# Altium schematic symbol library Revo_element.SchLib: 112 symbols (part 2 of 2)
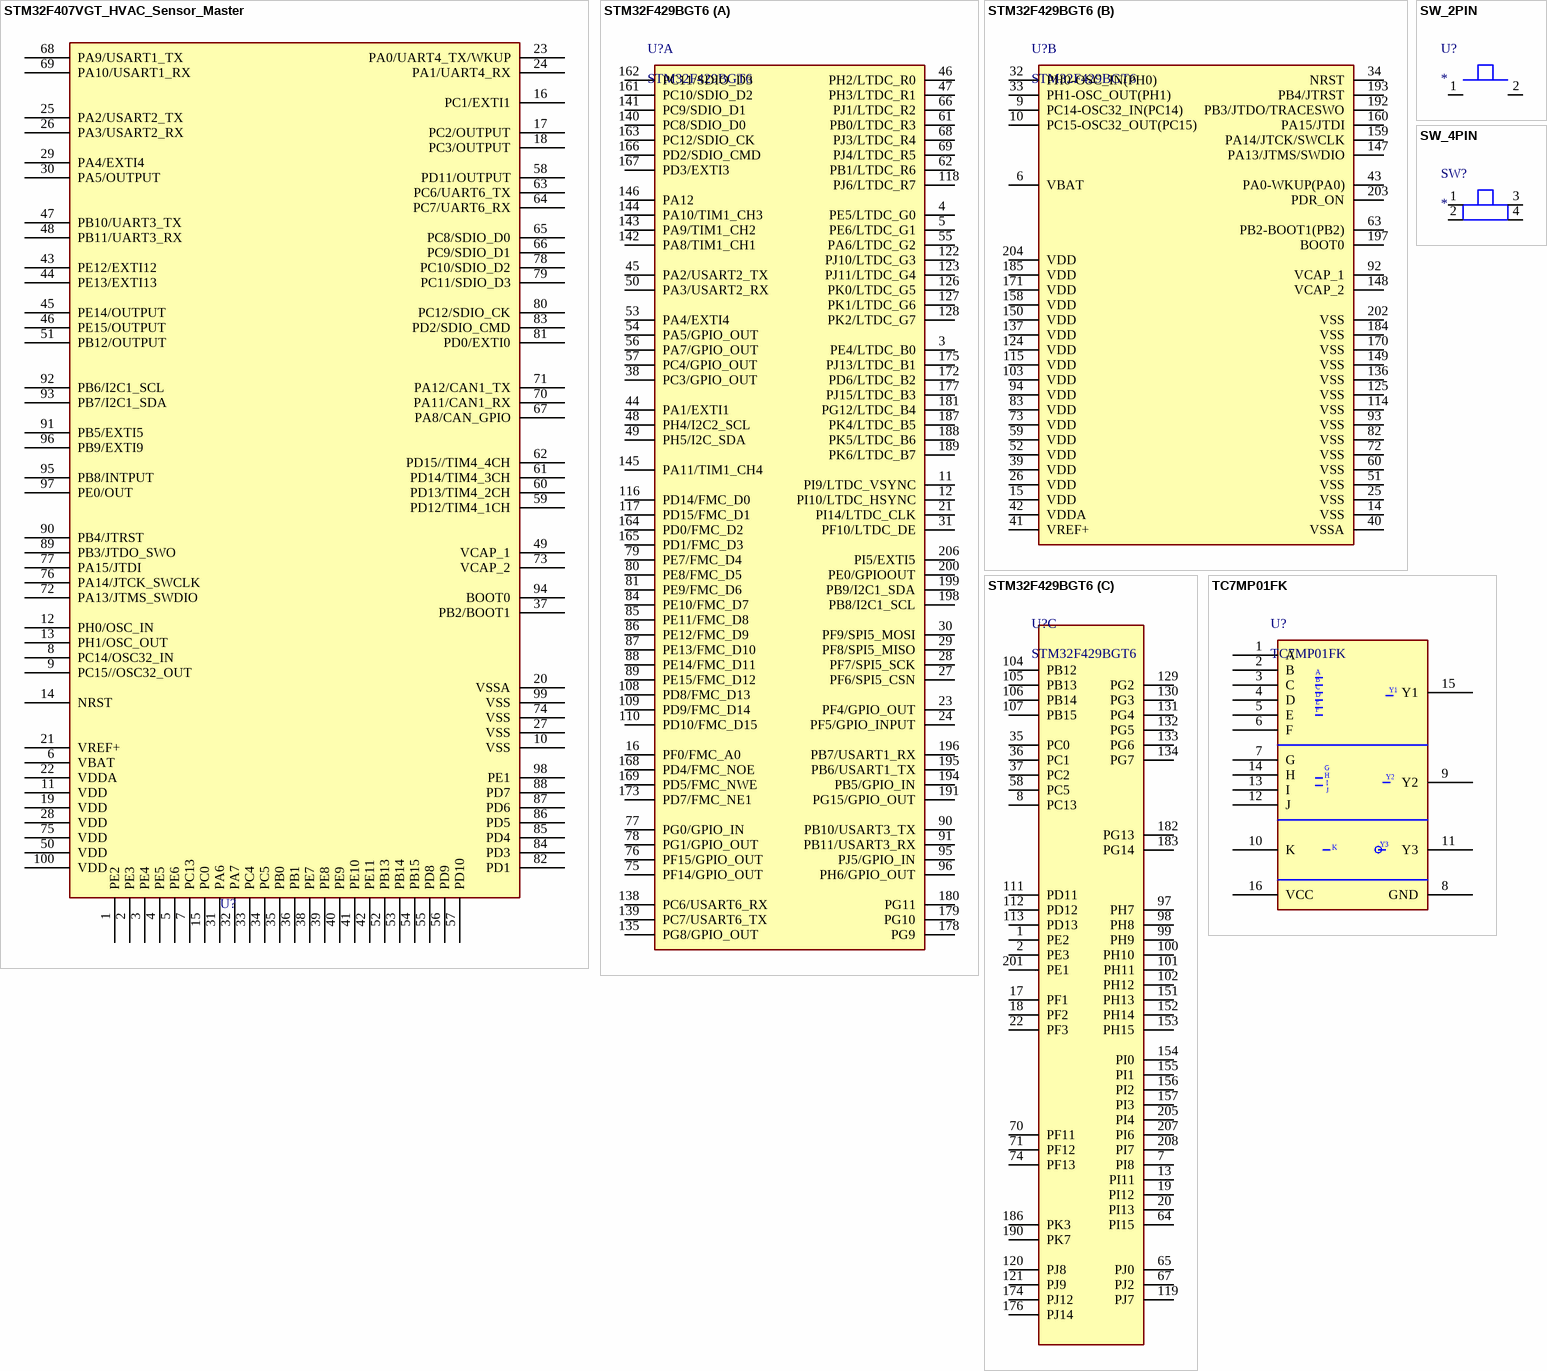
[diagram p6: symbols STM32F407VGT_HVAC_Sensor_Master to TC7MP01FK]

## STM32F429BGT6
designator U?
ARM Microcontrollers; Made by: STMicroelectronics; Note: MCU High-performance advanced line, Arm Cortex-M4 core DSP & FPU, 1 Mbyte of Flash 1; ComponentLink1Description: Datasheet; ComponentLink1URL: https://www.mouser.kr/datasheet/2/389/stm32f427vg-1760963.pdf; ComponentLink2Description: Market; ComponentLink2URL: https://www.mouser.kr/ProductDetail/STMicroelectronics/STM32F429BGT6?qs=DqCdCwOw4%2F5l%2FE9aCVsrOQ%3D%3D; PartName: STM32F429BGT6; Value: *; Footprint: LQFP-208
footprint LQFP208
part A pins: 3 PE4/LTDC_B0, 4 PE5/LTDC_G0, 5 PE6/LTDC_G1, 11 PI9/LTDC_VSYNC, 12 PI10/LTDC_HSYNC, 16 PF0/FMC_A0, 21 PI14/LTDC_CLK, 23 PF4/GPIO_OUT, 24 PF5/GPIO_INPUT, 27 PF6/SPI5_CSN, 28 PF7/SPI5_SCK, 29 PF8/SPI5_MISO, 30 PF9/SPI5_MOSI, 31 PF10/LTDC_DE, 38 PC3/GPIO_OUT, 44 PA1/EXTI1, 45 PA2/USART2_TX, 46 PH2/LTDC_R0, 47 PH3/LTDC_R1, 48 PH4/I2C2_SCL, 49 PH5/I2C_SDA, 50 PA3/USART2_RX, 53 PA4/EXTI4, 54 PA5/GPIO_OUT, 55 PA6/LTDC_G2, 56 PA7/GPIO_OUT, 57 PC4/GPIO_OUT, 61 PB0/LTDC_R3, 62 PB1/LTDC_R6, 66 PJ1/LTDC_R2, 68 PJ3/LTDC_R4, 69 PJ4/LTDC_R5, 75 PF14/GPIO_OUT, 76 PF15/GPIO_OUT, 77 PG0/GPIO_IN, 78 PG1/GPIO_OUT, 79 PE7/FMC_D4, 80 PE8/FMC_D5, 81 PE9/FMC_D6, 84 PE10/FMC_D7, 85 PE11/FMC_D8, 86 PE12/FMC_D9, 87 PE13/FMC_D10, 88 PE14/FMC_D11, 89 PE15/FMC_D12, 90 PB10/USART3_TX, 91 PB11/USART3_RX, 95 PJ5/GPIO_IN, 96 PH6/GPIO_OUT, 108 PD8/FMC_D13, 109 PD9/FMC_D14, 110 PD10/FMC_D15, 116 PD14/FMC_D0, 117 PD15/FMC_D1, 118 PJ6/LTDC_R7, 122 PJ10/LTDC_G3, 123 PJ11/LTDC_G4, 126 PK0/LTDC_G5, 127 PK1/LTDC_G6, 128 PK2/LTDC_G7, 135 PG8/GPIO_OUT, 138 PC6/USART6_RX, 139 PC7/USART6_TX, 140 PC8/SDIO_D0, 141 PC9/SDIO_D1, 142 PA8/TIM1_CH1, 143 PA9/TIM1_CH2, 144 PA10/TIM1_CH3, 145 PA11/TIM1_CH4, 146 PA12, 161 PC10/SDIO_D2, 162 PC11/SDIO_D3, 163 PC12/SDIO_CK, 164 PD0/FMC_D2, 165 PD1/FMC_D3, 166 PD2/SDIO_CMD, 167 PD3/EXTI3, 168 PD4/FMC_NOE, 169 PD5/FMC_NWE, 172 PD6/LTDC_B2, 173 PD7/FMC_NE1, 175 PJ13/LTDC_B1, 177 PJ15/LTDC_B3, 178 PG9, 179 PG10, 180 PG11, 181 PG12/LTDC_B4, 187 PK4/LTDC_B5, 188 PK5/LTDC_B6, 189 PK6/LTDC_B7, 191 PG15/GPIO_OUT, 194 PB5/GPIO_IN, 195 PB6/USART1_TX, 196 PB7/USART1_RX, 198 PB8/I2C1_SCL, 199 PB9/I2C1_SDA, 200 PE0/GPIOOUT, 206 PI5/EXTI5
part B pins: 6 VBAT, 9 PC14-OSC32_IN(PC14), 10 PC15-OSC32_OUT(PC15), 14 VSS, 15 VDD, 25 VSS, 26 VDD, 32 PH0-OSC_IN(PH0), 33 PH1-OSC_OUT(PH1), 34 NRST, 39 VDD, 40 VSSA, 41 VREF+, 42 VDDA, 43 PA0-WKUP(PA0), 51 VSS, 52 VDD, 59 VDD, 60 VSS, 63 PB2-BOOT1(PB2), 72 VSS, 73 VDD, 82 VSS, 83 VDD, 92 VCAP_1, 93 VSS, 94 VDD, 103 VDD, 114 VSS, 115 VDD, 124 VDD, 125 VSS, 136 VSS, 137 VDD, 147 PA13/JTMS/SWDIO, 148 VCAP_2, 149 VSS, 150 VDD, 158 VDD, 159 PA14/JTCK/SWCLK, 160 PA15/JTDI, 170 VSS, 171 VDD, 184 VSS, 185 VDD, 192 PB3/JTDO/TRACESWO, 193 PB4/JTRST, 197 BOOT0, 202 VSS, 203 PDR_ON, 204 VDD
part C pins: 1 PE2, 2 PE3, 7 PI8, 8 PC13, 13 PI11, 17 PF1, 18 PF2, 19 PI12, 20 PI13, 22 PF3, 35 PC0, 36 PC1, 37 PC2, 58 PC5, 64 PI15, 65 PJ0, 67 PJ2, 70 PF11, 71 PF12, 74 PF13, 97 PH7, 98 PH8, 99 PH9, 100 PH10, 101 PH11, 102 PH12, 104 PB12, 105 PB13, 106 PB14, 107 PB15, 111 PD11, 112 PD12, 113 PD13, 119 PJ7, 120 PJ8, 121 PJ9, 129 PG2, 130 PG3, 131 PG4, 132 PG5, 133 PG6, 134 PG7, 151 PH13, 152 PH14, 153 PH15, 154 PI0, 155 PI1, 156 PI2, 157 PI3, 174 PJ12, 176 PJ14, 182 PG13, 183 PG14, 186 PK3, 190 PK7, 201 PE1, 205 PI4, 207 PI6, 208 PI7

## SW_2PIN
designator U?
Battery Management STANDARD LINEAR BATT MNTR IC; ComponentLink1Description: Datasheet; ComponentLink1URL: *; ComponentLink2Description: Market; ComponentLink2URL: *; PartName: *; Value: *; Footprint: *; Made by: *; Note: *
pins: 1 ~{}, 2 ~{}

## SW_4PIN
designator SW?
Battery Management STANDARD LINEAR BATT MNTR IC; ComponentLink1Description: Datasheet; ComponentLink1URL: *; ComponentLink2Description: Market; ComponentLink2URL: *; PartName: *; Value: *; Footprint: *; Made by: *; Note: *
footprint TL1014AF (Side Tect Switch)
pins: 1 ~{}, 2 ~{}, 3 ~{}, 4 ~{}

## TC7MP01FK
designator U?
Low-Voltage Triple Gate(6-input AND + 4-input OR + inverter); Made by: TOSHIBA; PartName: TC7MP01FK; Value: TC7MP01FK; Footprint: VSSOP16-P; Note: Triple Gate; ComponentLink1Description: Datasheet; ComponentLink1URL: https://toshiba.semicon-storage.com/kr/semiconductor/product/general-purpose-logic-ics/detail.TC7MP01FK.html; ComponentLink2Description: Market; ComponentLink2URL: https://www.eleparts.co.kr/goods/view?no=6634319
footprint VSSOP-16N (P0030-0.50)
pins: 1 A, 2 B, 3 C, 4 D, 5 E, 6 F, 7 G, 8 GND, 9 Y2, 10 K, 11 Y3, 12 J, 13 I, 14 H, 15 Y1, 16 VCC

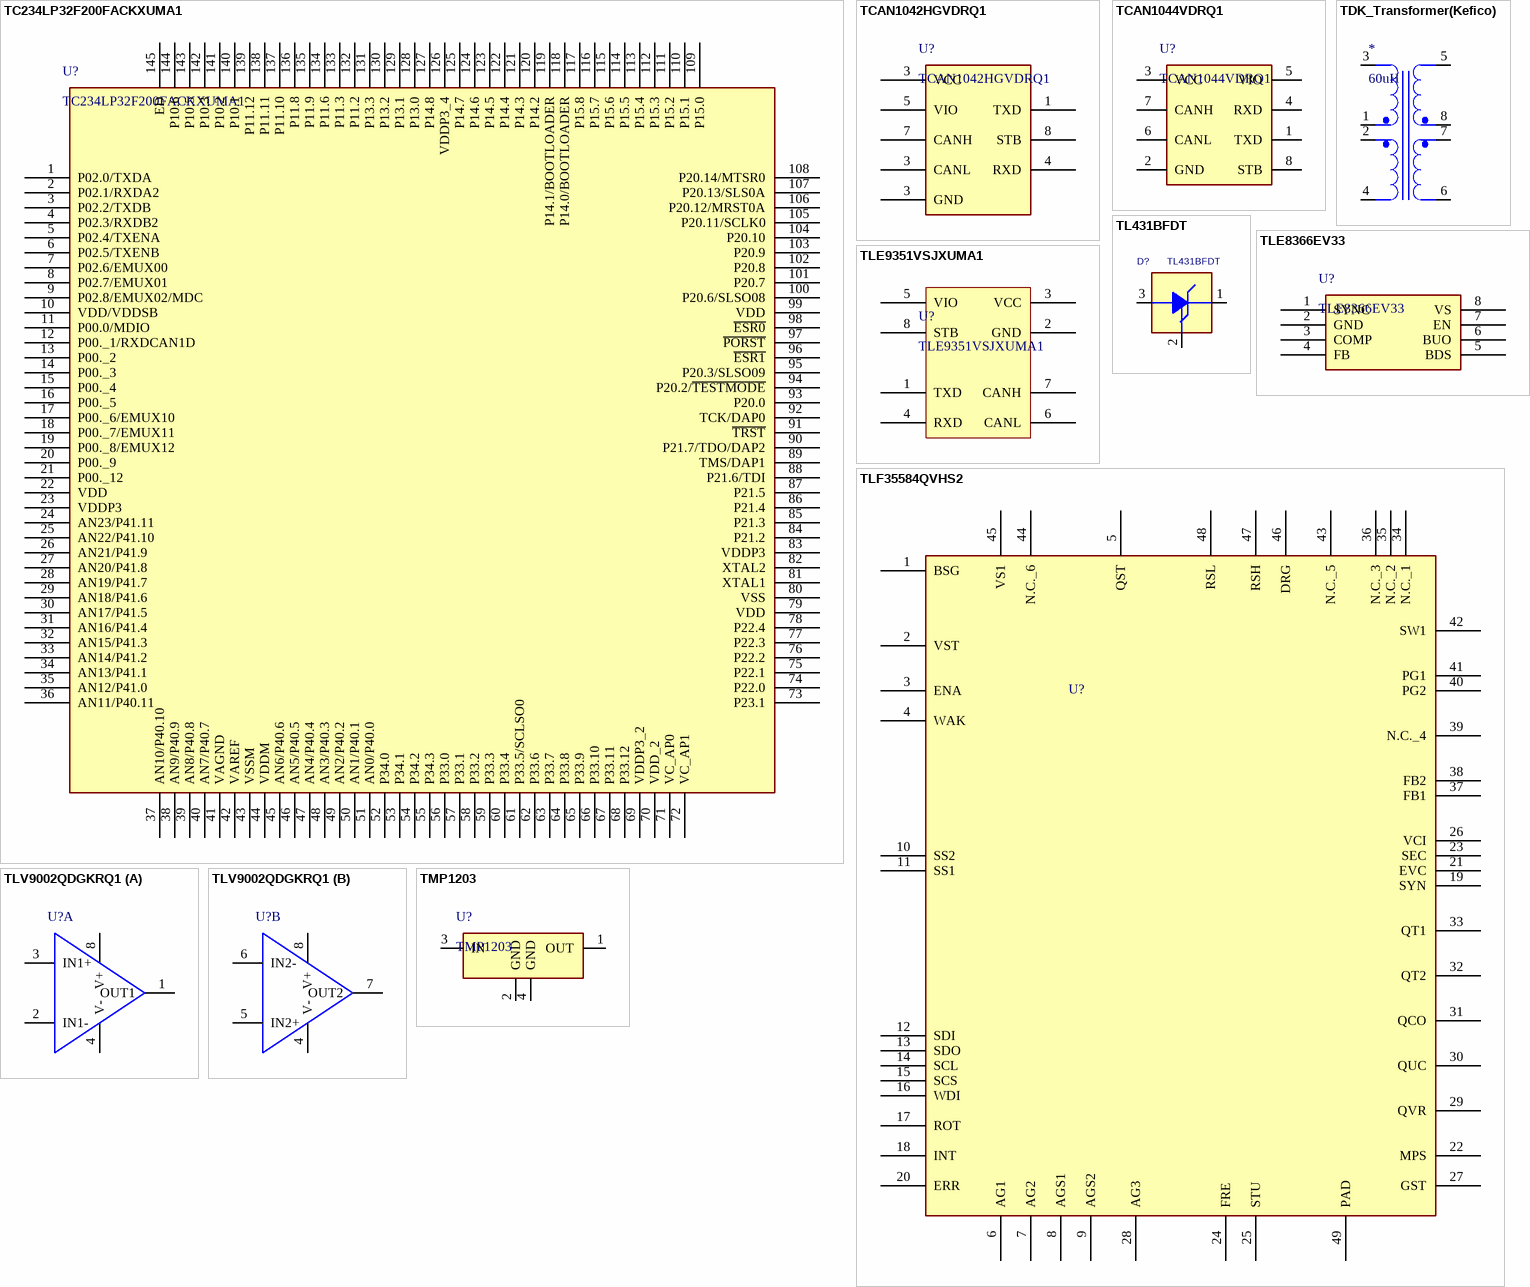
[diagram p4: symbols TC234LP32F200FACKXUMA1 to TMP1203]

## TC234LP32F200FACKXUMA1
designator U?
32-bit Microcontrollers - MCU 32 BIT AURIX; Made by: Infineon; PartName: TC234LP32F200FACKXUMA1; ComponentLink1Description: Datasheet; ComponentLink1URL: https://www.mouser.kr/datasheet/2/196/Infineon_TC23xAC_DS_DataSheet_v01_00_EN-3363981.pdf; ComponentLink2Description: Market; ComponentLink2URL: https://www.mouser.kr/ProductDetail/Infineon-Technologies/TC234LP32F200FACKXUMA1?qs=%252BdQmOuGyFcGkHVIdi20jfw%3D%3D; Value: TC234LP32F200FACKXUMA1; Footprint: TQFP-144; Note: *
footprint TQFP-144
pins: 1 P02.0/TXDA, 2 P02.1/RXDA2, 3 P02.2/TXDB, 4 P02.3/RXDB2, 5 P02.4/TXENA, 6 P02.5/TXENB, 7 P02.6/EMUX00, 8 P02.7/EMUX01, 9 P02.8/EMUX02/MDC, 10 VDD/VDDSB, 11 P00.0/MDIO, 12 P00._1/RXDCAN1D, 13 P00._2, 14 P00._3, 15 P00._4, 16 P00._5, 17 P00._6/EMUX10, 18 P00._7/EMUX11, 19 P00._8/EMUX12, 20 P00._9, 21 P00._12, 22 VDD, 23 VDDP3, 24 AN23/P41.11, 25 AN22/P41.10, 26 AN21/P41.9, 27 AN20/P41.8, 28 AN19/P41.7, 29 AN18/P41.6, 30 AN17/P41.5, 31 AN16/P41.4, 32 AN15/P41.3, 33 AN14/P41.2, 34 AN13/P41.1, 35 AN12/P41.0, 36 AN11/P40.11, 37 AN10/P40.10, 38 AN9/P40.9, 39 AN8/P40.8, 40 AN7/P40.7, 41 VAGND, 42 VAREF, 43 VSSM, 44 VDDM, 45 AN6/P40.6, 46 AN5/P40.5, 47 AN4/P40.4, 48 AN3/P40.3, 49 AN2/P40.2, 50 AN1/P40.1, 51 AN0/P40.0, 52 P34.0, 53 P34.1, 54 P34.2, 55 P34.3, 56 P33.0, 57 P33.1, 58 P33.2, 59 P33.3, 60 P33.4, 61 P33.5/SCLSO0, 62 P33.6, 63 P33.7, 64 P33.8, 65 P33.9, 66 P33.10, 67 P33.11, 68 P33.12, 69 VDDP3_2, 70 VDD_2, 71 VC_AP0, 72 VC_AP1, 73 P23.1, 74 P22.0, 75 P22.1, 76 P22.2, 77 P22.3, 78 P22.4, 79 VDD, 80 VSS, 81 XTAL1, 82 XTAL2, 83 VDDP3, 84 P21.2, 85 P21.3, 86 P21.4, 87 P21.5, 88 P21.6/TDI, 89 TMS/DAP1, 90 P21.7/TDO/DAP2, 91 ~{TRST}, 92 TCK/DAP0, 93 P20.0, 94 P20.2/~{TESTMODE}, 95 P20.3/SLSO09, 96 ~{ESR1}, 97 ~{PORST}, 98 ~{ESR0}, 99 VDD, 100 P20.6/SLSO08, 101 P20.7, 102 P20.8, 103 P20.9, 104 P20.10, 105 P20.11/SCLK0, 106 P20.12/MRST0A, 107 P20.13/SLS0A, 108 P20.14/MTSR0, 109 P15.0, 110 P15.1, 111 P15.2, 112 P15.3, 113 P15.4, 114 P15.5, 115 P15.6, 116 P15.7, 117 P15.8, 118 P14.0/BOOTLOADER, 119 P14.1/BOOTLOADER, 120 P14.2, 121 P14.3, 122 P14.4, 123 P14.5, 124 P14.6, 125 P14.7, 126 VDDP3_4, 127 P14.8, 128 P13.0, 129 P13.1, 130 P13.2, 131 P13.3, 132 P11.2, 133 P11.3, 134 P11.6, 135 P11.9, 136 P11.8, 137 P11.10, 138 P11.11, 139 P11.12, 140 P10.1, 141 P10.2, 142 P10.3, 143 P10.5, 144 P10.6, 145 ED

## TCAN1042HGVDRQ1
designator U?
CAN 인터페이스 IC Automotive Fault Protected CAN Transceiver With Flexible Data-Rate 8-SOIC -55 to 125 AEC-Q100; Made by: Texas Instruments; PartName: TCAN1042HGVDRQ1; Value: TCAN1042HGVDRQ1; Footprint: TSOT-23; ComponentLink1Description: Datasheet; ComponentLink1URL: https://www.ti.com/lit/ds/symlink/tcan1042hgv-q1.pdf?HQS=dis-mous-null-mousermode-dsf-pf-null-wwe&ts=1668626912457&ref_url=https%253A%252F%252Fwww.mouser.kr%252F; ComponentLink2Description: Market; ComponentLink2URL: https://www.mouser.kr/ProductDetail/Texas-Instruments/TCAN1042HGVDRQ1?qs=yDQnu9hAfI%2FZ9XkAYDov0Q%3D%3D; Note: Automotive Fault Protected CAN Transceiver
footprint SOIC-8
pins: 1 TXD, 3 VCC, 3 CANL, 3 GND, 4 RXD, 5 VIO, 7 CANH, 8 STB

## TCAN1044VDRQ1
designator U?
CAN Interface IC Automotive fault-protected high-speed CAN transceiver with standby and 1.8-V I/O support 8-SOIC -40 to 125; Made by: Texas Instruments; ComponentLink1Description: Datasheet; ComponentLink1URL: https://www.ti.com/lit/ds/symlink/tcan1044v-q1.pdf?ts=1724814836857&ref_url=https%253A%252F%252Fwww.mouser.com%252F; ComponentLink2Description: Market; ComponentLink2URL: https://www.mouser.com/ProductDetail/Texas-Instruments/TCAN1044VDRQ1?qs=qSfuJ%252Bfl%2Fd4nIBNEQHtylQ%3D%3D; PartName: TCAN1044VDRQ1; Value: TCAN1044VDRQ1; Footprint: SOIC-8N; Note: CAN Interface
footprint SOIC-8
pins: 1 TXD, 2 GND, 3 VCC, 4 RXD, 5 VIO, 6 CANL, 7 CANH, 8 STB

## TDK_Transformer(Kefico)
designator *, comment 60uH
TDK_Transformer(Kefico)  B78417A Series; PartName: TRS-YETRF1313H; Value: 60uH; Footprint: *; Made by: *; Note: *; ComponentLink1Description: Datasheet; ComponentLink1URL: https://www.tdk-electronics.tdk.com/inf/85/ds/b78417a.pdf; ComponentLink2Description: Market; ComponentLink2URL: *
footprint TRS-YETRF1313H
footprint TDK_Transformer(Kefico) (1:1 SMD type Transformer)
pins: 1 IN1, 2 IN2, 3 IN1, 4 IN2, 5 OUT1, 6 OUT2, 7 OUT2, 8 OUT1

## TL431BFDT
designator D?
Voltage References TL431BFDT/SOT23/TO-236AB; PartName: TL431BFDT,215; Made by: Nexperia; Value: TL431BFDT; Footprint: SOT23; Note: Voltage References; ComponentLink1Description: Datasheet; ComponentLink1URL: https://www.mouser.kr/datasheet/2/916/TL431_FAM-1319628.pdf; ComponentLink2Description: Market; ComponentLink2URL: https://www.mouser.kr/ProductDetail/Nexperia/TL431BFDT215?qs=A1cBxND5mHKnZ8peyCtLgw%3D%3D
footprint SOT23
pins: 1 C, 2 REF, 3 A

## TLE8366EV33
designator U?
1.8A DC/DC Step-Down Voltage Regulator; Made by: Infineon; PartName: TLE8366EV33; Value: TLE8366EV33; Footprint: SOIC-8; Note: 1.8A DC/DC Step-Down Voltage Regulator; ComponentLink1Description: Datasheet; ComponentLink1URL: https://www.infineon.com/dgdl/Infineon-TLE8366-DS-v01_00-EN.pdf?fileId=5546d46258fc0bc1015969d2def641fa; ComponentLink2Description: Market; ComponentLink2URL: https://www.devicemart.co.kr/goods/view?no=10883075
footprint SOIC-8
pins: 1 SYNC, 2 GND, 3 COMP, 4 FB, 5 BDS, 6 BUO, 7 EN, 8 VS

## TLE9351VSJXUMA1
designator U?
Made by: Infineon; PartName: TLE9351VSJXUMA1; Value: TLE9351VSJXUMA1; Footprint: DSO-8; Note: *; ComponentLink1Description: Datasheet; ComponentLink1URL: https://www.mouser.kr/datasheet/2/196/Infineon_TLE9251V_DataSheet_v01_11_EN-3364017.pdf; ComponentLink2Description: Market; ComponentLink2URL: https://www.mouser.kr/ProductDetail/Infineon-Technologies/TLE9251VSJXUMA1?qs=u4fy%2FsgLU9Nld%2FIoDfZmmw%3D%3D&srsltid=AfmBOorVd1QGEEjOMRY-36fGmKn4R0k9VBcKnU3hVSD_LhTppEk1e2_I
footprint SOIC127P600X175-8N
pins: 1 TXD, 2 GND, 3 VCC, 4 RXD, 5 VIO, 6 CANL, 7 CANH, 8 STB

## TLF35584QVHS2
designator U?  (value not drawn)
TLF35584QVHS2 is a multiple output system supply for safety-relevant applications supplying 3.3V-uC; Made by: Infineon; PartName: TLF35584QVHS2; ComponentLink1Description: Datasheet; ComponentLink1URL: myicp; ComponentLink2Description: Market; ComponentLink2URL: https://www.mouser.kr/ProductDetail/Infineon-Technologies/TLF35584QVHS2XUMA1?qs=Rp5uXu7WBW91zKxuLZBTlw%3D%3D; Value: TLF35584QVHS2; Footprint: PG-VQFN-48; Note: *
footprint PG-VQFN-48
pins: 1 BSG, 2 VST, 3 ENA, 4 WAK, 5 QST, 6 AG1, 7 AG2, 8 AGS1, 9 AGS2, 10 SS2, 11 SS1, 12 SDI, 13 SDO, 14 SCL, 15 SCS, 16 WDI, 17 ROT, 18 INT, 19 SYN, 20 ERR, 21 EVC, 22 MPS, 23 SEC, 24 FRE, 25 STU, 26 VCI, 27 GST, 28 AG3, 29 QVR, 30 QUC, 31 QCO, 32 QT2, 33 QT1, 34 N.C._1, 35 N.C._2, 36 N.C._3, 37 FB1, 38 FB2, 39 N.C._4, 40 PG2, 41 PG1, 42 SW1, 43 N.C._5, 44 N.C._6, 45 VS1, 46 DRG, 47 RSH, 48 RSL, 49 PAD

## TLV9002QDGKRQ1
designator U?  (value not drawn)
Integrated Circuit; Made by: Texas Instruments; ComponentLink1Description: Datasheet; ComponentLink1URL: https://www.ti.com/lit/gpn/TLV9002-Q1; ComponentLink2Description: Market; ComponentLink2URL: https://www.mouser.co.uk/ProductDetail/Texas-Instruments/TLV9002QDGKRQ1?qs=iLbezkQI%252BsjqtLew7kMHXA%3D%3D; PartName: TLV9002QDGKRQ1; Value: TLV9002QDGKRQ1; Footprint: VSSOP-8 (0.65); Note: *
footprint VSSOP-8 (0.65)
part A pins: 1 OUT1, 2 IN1-, 3 IN1+, 4 V-, 8 V+
part B pins: 4 V-, 5 IN2+, 6 IN2-, 7 OUT2, 8 V+

## TMP1203
designator U?
PartName: TMP1203; Value: TMP1203; Footprint: SOT89-3; Made by: *; Note: *; ComponentLink1Description: Datasheet; ComponentLink1URL: *; ComponentLink2Description: Market; ComponentLink2URL: *
footprint SOT89-3
pins: 1 OUT, 2 GND, 3 IN, 4 GND

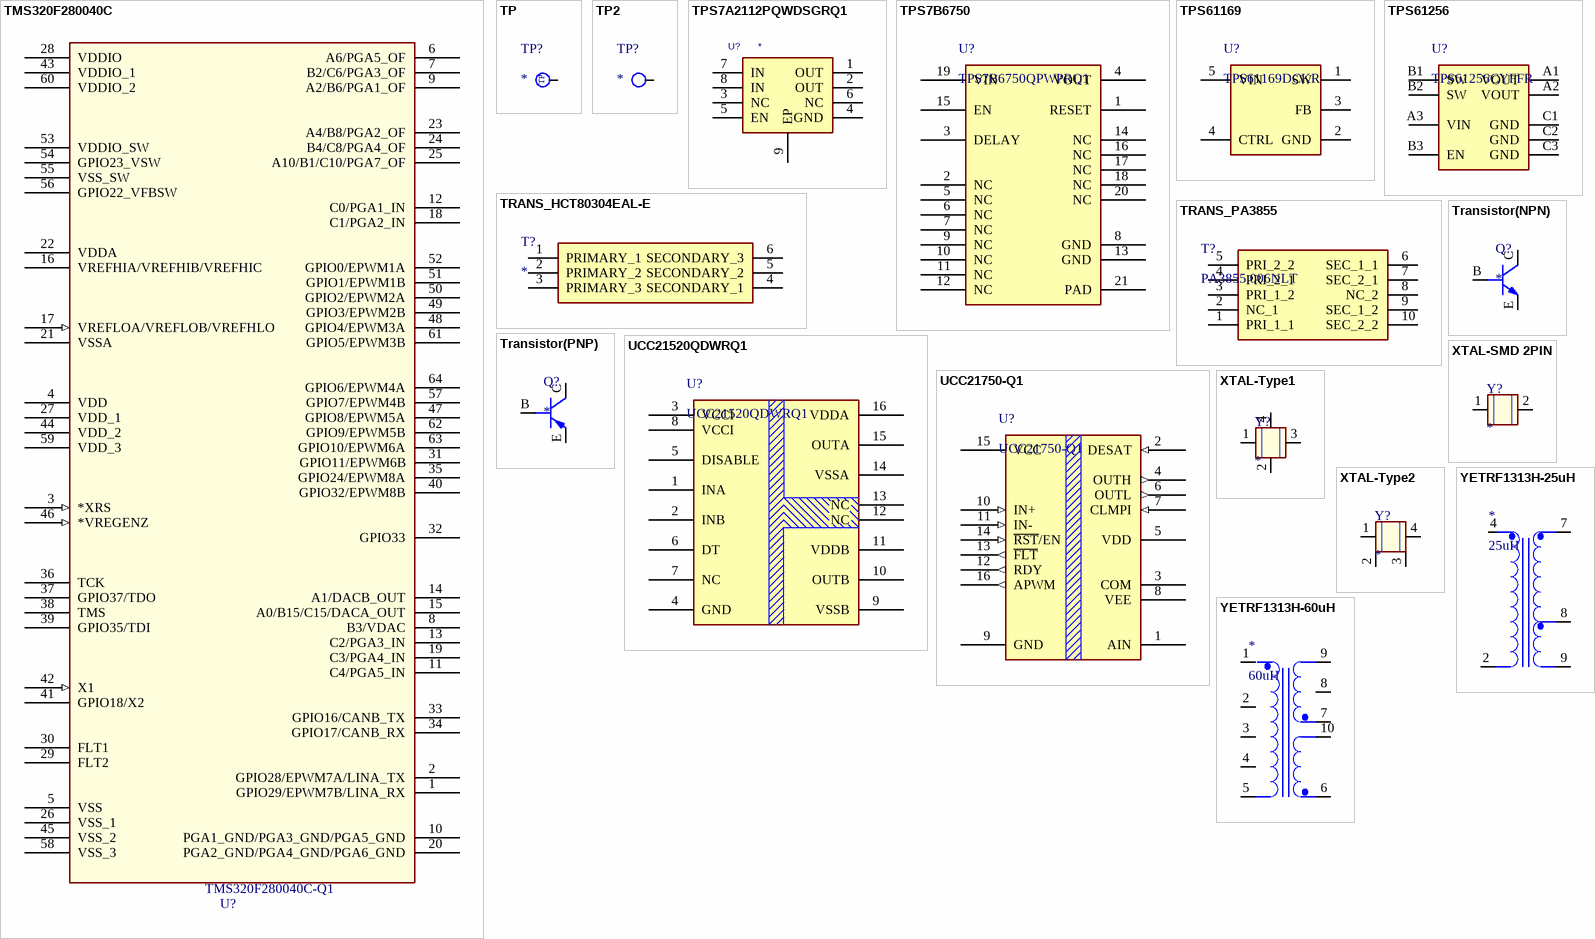
[diagram p5: symbols TMS320F280040C to YETRF1313H-60uH]

## TMS320F280040C
designator U?, comment TMS320F280040C-Q1
Automotive C2000™ 32-bit MCU(-40C~125C); Made by: TEXAS INSTRUMENTS; Note: 100 MHz, FPU, TMU, 128-KB flash, InstaSPIN-FOC, CLB, PGAs, SDFM; PartName: TMS320F280040C-Q1; Value: TMS320F280040C-Q1; Footprint: LQFP-64; ComponentLink1Description: Datasheet; ComponentLink1URL: https://www.ti.com/lit/ug/sprui33d/sprui33d.pdf?ts=1652076277118&ref_url=https%253A%252F%252Fwww.ti.com%252Fproduct%252FTMS320F280049%253FkeyMatch%253DTMS320F280049PZ; ComponentLink2Description: Market; ComponentLink2URL: https://www.mouser.kr/ProductDetail/Texas-Instruments/F280040CPMQR?qs=qSfuJ%252Bfl%2Fd4R%2FTjDtltnGQ%3D%3D
footprint LQFP-64
pins: 1 GPIO29/EPWM7B/LINA_RX, 2 GPIO28/EPWM7A/LINA_TX, 3 *XRS (in), 4 VDD, 5 VSS, 6 A6/PGA5_OF, 7 B2/C6/PGA3_OF, 8 B3/VDAC, 9 A2/B6/PGA1_OF, 10 PGA1_GND/PGA3_GND/PGA5_GND, 11 C4/PGA5_IN, 12 C0/PGA1_IN, 13 C2/PGA3_IN, 14 A1/DACB_OUT, 15 A0/B15/C15/DACA_OUT, 16 VREFHIA/VREFHIB/VREFHIC, 17 VREFLOA/VREFLOB/VREFHLO (in), 18 C1/PGA2_IN, 19 C3/PGA4_IN, 20 PGA2_GND/PGA4_GND/PGA6_GND, 21 VSSA, 22 VDDA, 23 A4/B8/PGA2_OF, 24 B4/C8/PGA4_OF, 25 A10/B1/C10/PGA7_OF, 26 VSS_1, 27 VDD_1, 28 VDDIO, 29 FLT2, 30 FLT1, 31 GPIO11/EPWM6B, 32 GPIO33, 33 GPIO16/CANB_TX, 34 GPIO17/CANB_RX, 35 GPIO24/EPWM8A, 36 TCK, 37 GPIO37/TDO, 38 TMS, 39 GPIO35/TDI, 40 GPIO32/EPWM8B, 41 GPIO18/X2, 42 X1 (in), 43 VDDIO_1, 44 VDD_2, 45 VSS_2, 46 *VREGENZ (in), 47 GPIO8/EPWM5A, 48 GPIO4/EPWM3A, 49 GPIO3/EPWM2B, 50 GPIO2/EPWM2A, 51 GPIO1/EPWM1B, 52 GPIO0/EPWM1A, 53 VDDIO_SW, 54 GPIO23_VSW, 55 VSS_SW, 56 GPIO22_VFBSW, 57 GPIO7/EPWM4B, 58 VSS_3, 59 VDD_3, 60 VDDIO_2, 61 GPIO5/EPWM3B, 62 GPIO9/EPWM5B, 63 GPIO10/EPWM6A, 64 GPIO6/EPWM4A

## TP
designator TP?
PartName: NC; Value: *; Footprint: *; Made by: *; Note: *; ComponentLink1Description: Datasheet; ComponentLink1URL: *; ComponentLink2Description: Market; ComponentLink2URL: *
footprint TP_HOLE(1.0MM)
footprint TP_HOLE(2.0MM)
footprint TP_PAD(1mm)
footprint TP_PAD(2mm)
pins: 1

## TP2
designator TP?
PartName: NC; Value: *; Footprint: *; Made by: *; Note: *; ComponentLink1Description: Datasheet; ComponentLink1URL: *; ComponentLink2Description: Market; ComponentLink2URL: *
footprint TP_HOLE(1.0MM)
footprint TP_HOLE(2.0MM)
footprint TP_PAD(1mm)
footprint TP_PAD(2mm)
pins: 1

## TPS7A2112PQWDSGRQ1
designator U?
LDO Voltage Regulators; PartName: TPS7A2112PQWDSGRQ1; Made by: Texas Instruments; Note: Voltage References; Value: *; Footprint: DSG(WSON-8); ComponentLink1Description: Datasheet; ComponentLink1URL: https://www.ti.com/lit/ds/symlink/tps7a21-q1.pdf?ts=1730702590077&ref_url=https%253A%252F%252Fwww.mouser.kr%252F; ComponentLink2Description: Market; ComponentLink2URL: https://www.mouser.kr/ProductDetail/Texas-Instruments/TPS7A2112PQWDSGRQ1?qs=iLKYxzqNS763baD2bpcaZg%3D%3D
footprint DSG(WSON-8)
pins: 1 OUT, 2 OUT, 3 NC, 4 GND, 5 EN, 6 NC, 7 IN, 8 IN, 9 EP

## TPS7B6750
designator U?, comment TPS7B6750QPWPRQ1
TPS7B67xx-Q1 450-mA High-Voltage Ultra-Low IQ Low-Dropout Regulator / AEC-Q100; Made by: Texas Instruments; PartName: TPS7B6750QPWPRQ1; Value: TPS7B6750QPWPRQ1; Footprint: HTSSOP-20; Note: Regulator; ComponentLink1Description: Datasheet; ComponentLink1URL: https://www.ti.com/lit/ds/symlink/tps7b67-q1.pdf?HQS=dis-mous-null-mousermode-dsf-pf-null-wwe&ts=1668582559201&ref_url=https%253A%252F%252Fwww.mouser.kr%252F; ComponentLink2Description: Market; ComponentLink2URL: https://www.mouser.kr/ProductDetail/Texas-Instruments/TPS7B6750QPWPRQ1?qs=%2Fd%252BFzHvH4c3V1xLue7iwRQ%3D%3D
footprint HTSSOP-20
pins: 1 RESET, 2 NC, 3 DELAY, 4 VOUT, 5 NC, 6 NC, 7 NC, 8 GND, 9 NC, 10 NC, 11 NC, 12 NC, 13 GND, 14 NC, 15 EN, 16 NC, 17 NC, 18 NC, 19 VIN, 20 NC, 21 PAD

## TPS61169
designator U?, comment TPS61169DCKR
LED Lighting Drivers; Made by: Texas Instruments; Note: LED Lighting Drivers TPS61169 38-VHighCur r Boost WLED Driver; PartName: TPS61169DCKR; Value: *; Footprint: HTSSOP-20; ComponentLink1Description: Datasheet; ComponentLink1URL: https://www.ti.com/lit/ds/symlink/tps7b67-q1.pdf?HQS=dis-mous-null-mousermode-dsf-pf-null-wwe&ts=1668582559201&ref_url=https%253A%252F%252Fwww.mouser.kr%252F; ComponentLink2Description: Market; ComponentLink2URL: https://www.mouser.kr/ProductDetail/Texas-Instruments/TPS61169DCKR?qs=pqSajtDZXRUDQbMtko%2F5HQ%3D%3D
footprint SC-70-5
pins: 1 SW, 2 GND, 3 FB, 4 CTRL, 5 VIN

## TPS61256
designator U?, comment TPS61256CYFFR
Switching Voltage Regulators; Made by: Texas Instruments; Note: Switching Voltage Regulators 3.5-MHz, 5-V, 900-mA load boost converter in 1.2-mm x 1.3-mm WCSP, with pass-through mode 9-DSBGA -40 to 125; PartName: TPS61256CYFFR; Value: *; Footprint: DSBGA-9; ComponentLink1Description: Datasheet; ComponentLink1URL: https://www.ti.com/lit/ds/symlink/tps61256c.pdf?ts=1730187989387&ref_url=https%253A%252F%252Fwww.mouser.kr%252F; ComponentLink2Description: Market; ComponentLink2URL: https://www.mouser.kr/ProductDetail/Texas-Instruments/TPS61256CYFFR?qs=Mv7BduZupUgzVqL%252B9zb4Wg%3D%3D
footprint DSBGA-9
pins: A1 VOUT, A2 VOUT, A3 VIN, B1 SW, B2 SW, B3 EN, C1 GND, C2 GND, C3 GND

## TRANS_HCT80304EAL-E
designator T?
Transformer; Manufacturer_Name: Bourns; Manufacturer_Part_Number: HCT80304EAL-E; Datasheet Link: https://www.bourns.com/docs/product-datasheets/hct8xxxxeal.pdf?sfvrsn=c00920f6_3; Height: 8.5mm; Mouser Part Number: 652-HCT80304EAL-E; Mouser Price/Stock: https://www.mouser.co.uk/ProductDetail/Bourns/HCT80304EAL-E?qs=i8QVZAFTkqS6yacozqsh8w%3D%3D; Arrow Part Number: HCT80304EAL-E; Arrow Price/Stock: https://www.arrow.com/en/products/hct80304eal-e/bourns?region=nac
footprint HCT80304EALE
pins: 1 PRIMARY_1, 2 PRIMARY_2, 3 PRIMARY_3, 4 SECONDARY_1, 5 SECONDARY_2, 6 SECONDARY_3

## TRANS_PA3855
designator T?, comment PA3855.006NLT
Transformer; Manufacturer_Name: Pulse Electronics; Manufacturer_Part_Number: PA3855.003NLT; Datasheet Link: https://productfinder.pulseeng.com/products/datasheets/P719.pdf; Height: 14mm; Mouser Part Number: 673-PA3855.003NLT; Mouser Price/Stock: https://www.mouser.co.uk/ProductDetail/Pulse-Electronics/PA3855.003NLT?qs=9H3zipKZ1s0pi8rXpg85AQ%3D%3D; Arrow Part Number: PA3855.003NLT; Arrow Price/Stock: https://www.arrow.com/en/products/pa3855.003nlt/pulse-electronics-corporation?region=europe; Value: PA3855.006NLT
footprint TRANS_PA3855_series
pins: 1 PRI_1_1, 2 NC_1, 3 PRI_1_2, 4 PRI_2_1, 5 PRI_2_2, 6 SEC_1_1, 7 SEC_2_1, 8 NC_2, 9 SEC_1_2, 10 SEC_2_2

## Transistor(NPN)
designator Q?
PartName: NC; Value: *; Footprint: *; Made by: *; Note: *; ComponentLink1Description: Datasheet; ComponentLink1URL: *; ComponentLink2Description: Market; ComponentLink2URL: *
footprint SOT23
pins: B 1, C 3, E 2

## Transistor(PNP)
designator Q?
PartName: NC; Value: *; Footprint: *; Made by: *; Note: *; ComponentLink1Description: Datasheet; ComponentLink1URL: *; ComponentLink2Description: Market; ComponentLink2URL: *
footprint SOT23
pins: B 1, C 3, E 2

## UCC21520QDWRQ1
designator U?
UCC21520A-Q1 4-A, 6-A, 5.7-kVRMS Isolated Dual-Channel Gate Driver for Automotive; Made by: Texas Instruments; Note: Isolate Gate Drivers 2 Driver; PartName: UCC21520QDWRQ1; Value: UCC21520QDWRQ1; Footprint: SOIC-16; ComponentLink1Description: Datasheet; ComponentLink1URL: https://www.ti.com/lit/ds/symlink/ucc21520-q1.pdf?HQS=dis-mous-null-mousermode-dsf-pf-null-wwe&ts=1681277682780&ref_url=https%253A%252F%252Fwww.mouser.kr%252F; ComponentLink2Description: Market; ComponentLink2URL: https://www.mouser.kr/ProductDetail/Texas-Instruments/UCC21520QDWRQ1?qs=7EBvPakHacWIHLDRskj6nA%3D%3D
footprint SOIC-16
pins: 1 INA, 2 INB, 3 VCCI, 4 GND, 5 DISABLE, 6 DT, 7 NC, 8 VCCI, 9 VSSB, 10 OUTB, 11 VDDB, 12 NC, 13 NC, 14 VSSA, 15 OUTA, 16 VDDA

## UCC21750-Q1
designator U?
Automotive 5.7kVrms 10A single-channel isolated gate driver with overcurrent protection for IGBT/SiC; Made by: TEXAS INSTRUMENTS; Note: UCC21710-Q1 10-A Source/Sink Reinforced Isolated Single Channel Gate Driver; PartName: UCC21750-Q1; Value: UCC21750-Q1; Footprint: SOIC-16; ComponentLink1Description: Datasheet; ComponentLink1URL: https://www.mouser.kr/ProductDetail/Texas-Instruments/UCC21710QDWRQ1?qs=9r4v7xj2LnlqS59tMWgtnw%3D%3D; ComponentLink2Description: Market; ComponentLink2URL: https://www.devicemart.co.kr/goods/view?no=9092446
footprint SOIC-16N
pins: 1 AIN, 2 DESAT (in), 3 COM, 4 OUTH (out), 5 VDD, 6 OUTL (out), 7 CLMPI (in), 8 VEE, 9 GND, 10 IN+ (in), 11 IN- (in), 12 RDY (out), 13 ~{FLT} (out), 14 ~{RST}/EN (in), 15 VCC, 16 APWM (out)

## XTAL-SMD 2PIN
designator Y?
Crystal or Oscillator(4pin); PartName: *; Value: *; Footprint: *; Made by: *; Note: *; ComponentLink1Description: Datasheet; ComponentLink1URL: *; ComponentLink2Description: Market; ComponentLink2URL: *
footprint XTAL_SMD
footprint XTAL-3.2X1.5 (32.768KHz)
pins: 1, 2

## XTAL-Type1
designator Y?
Crystal or Oscillator(4pin); PartName: *; Value: *; Footprint: *; Made by: *; Note: *; ComponentLink1Description: Datasheet; ComponentLink1URL: *; ComponentLink2Description: Market; ComponentLink2URL: *
footprint XTAL-5X7 (Cristal 5X7mm)
footprint XTAL-3.2X2.5 - N (Cristal 3.2X2.5mm)
footprint XTAL-3.2X2.5 (Cristal 3.2X2.5mm)
footprint XTAL-2.5X2.0
pins: 1, 2, 3, 4

## XTAL-Type2
designator Y?
Crystal or Oscillator(4pin); PartName: *; Value: *; Footprint: *; Made by: *; Note: *; ComponentLink1Description: Datasheet; ComponentLink1URL: *; ComponentLink2Description: Market; ComponentLink2URL: *
footprint XTAL-5X7 (Cristal 5X7mm)
footprint XTAL-3.2X2.5 - N (Cristal 3.2X2.5mm)
footprint XTAL-3.2X2.5 (Cristal 3.2X2.5mm)
footprint XTAL-2.5X2.0
pins: 1, 2, 3, 4 (power)

## YETRF1313H-25uH
designator *, comment 25uH
YETRF1313H-25uH-EA; PartName: TRS-YETRF1313H; Value: 25uH; Footprint: *; Made by: *; Note: *; ComponentLink1Description: Datasheet; ComponentLink1URL: *; ComponentLink2Description: Market; ComponentLink2URL: *
footprint TRS-YETRF1313H
pins: 2 IN2, 4 IN3, 7 OUT2, 8 OUT3, 9 OUT4

## YETRF1313H-60uH
designator *, comment 60uH
TRS-YETRF1313H-60uH; PartName: TRS-YETRF1313H; Value: 60uH; Footprint: *; Made by: *; Note: *; ComponentLink1Description: Datasheet; ComponentLink1URL: *; ComponentLink2Description: Market; ComponentLink2URL: *
footprint TRS-YETRF1313H
pins: 1 IN1, 2 IN2, 3 IN3, 4 IN3, 5 IN4, 6 OUT1, 7 OUT2, 8 OUT3, 9 OUT4, 10 OUT5